# EAGLE library part CON-HARTING-ML_ML10 (library PushButtonAction_4017_2)
HARTING
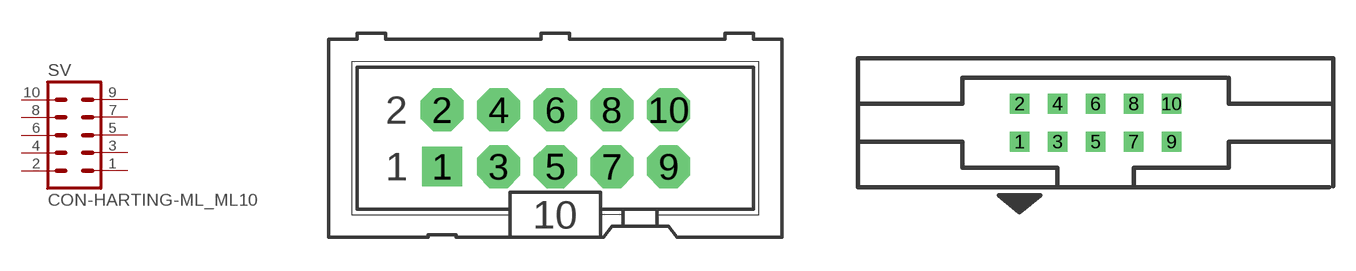
[diagram p1: symbol with the pads of CON-HARTING-ML_ML10; footprints CON-HARTING-ML_ML10, CON-HARTING-ML_3M_10]

Designator prefix SV

## CON-HARTING-ML_ML10 (OC_FARNELL: unknown; OC_NEWARK: unknown)  [CON-HARTING-ML_ML10]
1  1  pas
2  2  pas
3  3  pas
4  4  pas
5  5  pas
6  6  pas
7  7  pas
8  8  pas
9  9  pas
10  10  pas

## CON-HARTING-ML_ML10-3M (OC_FARNELL: unknown; OC_NEWARK: unknown)  [CON-HARTING-ML_3M_10]
Pads as for CON-HARTING-ML_ML10

## CON-HARTING-ML_ML10-3ML (OC_FARNELL: unknown; OC_NEWARK: unknown)  [CON-HARTING-ML_3M_10L]
Pads as for CON-HARTING-ML_ML10

## CON-HARTING-ML_ML10L (OC_FARNELL: unknown; OC_NEWARK: unknown)  [CON-HARTING-ML_ML10L]
Pads as for CON-HARTING-ML_ML10

## Footprint CON-HARTING-ML_ML10 (pad centres in mm)
HARTING
drill 0.914 pad 1.778 square: 1 -5.08,-1.27
drill 0.914 pad 1.93 octagon: 2 -5.08,1.27; 3 -2.54,-1.27; 4 -2.54,1.27; 5 0,-1.27; 6 0,1.27; 7 2.54,-1.27; 8 2.54,1.27; 9 5.08,-1.27; 10 5.08,1.27

## Footprint CON-HARTING-ML_3M_10 (pad centres in mm)
3M
drill 0.813 square: 1 -5.08,-1.27; 2 -5.08,1.27; 3 -2.54,-1.27; 4 -2.54,1.27; 5 0,-1.27; 6 0,1.27; 7 2.54,-1.27; 8 2.54,1.27; 9 5.08,-1.27; 10 5.08,1.27

## Footprint CON-HARTING-ML_3M_10L (pad centres in mm)
3M
drill 0.813 square: 1 -5.08,-5.08; 2 -5.08,-2.54; 3 -2.54,-5.08; 4 -2.54,-2.54; 5 0,-5.08; 6 0,-2.54; 7 2.54,-5.08; 8 2.54,-2.54; 9 5.08,-5.08; 10 5.08,-2.54
hole 2.54 at -10.998,-3.277
hole 2.54 at 10.998,-3.277

## Footprint CON-HARTING-ML_ML10L (pad centres in mm)
HARTING
drill 0.914 octagon: 1 -5.08,-1.27; 2 -5.08,1.27; 3 -2.54,-1.27; 4 -2.54,1.27; 5 0,-1.27; 6 0,1.27; 7 2.54,-1.27; 8 2.54,1.27; 9 5.08,-1.27; 10 5.08,1.27